# EAGLE library part MCP42100-E_SL (library SamacSys_Parts)
Dig Pot,256st,SPI,100k,2ch,MCP42100-E/SL Source: Datasheet <http://docs-emea.rs-online.com/webdocs/0a88/0900766b80a8815c.pdf>
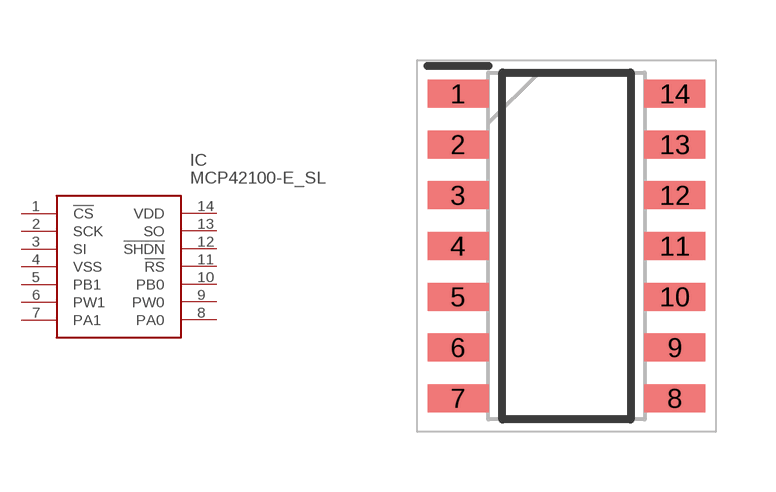
[diagram p2: symbol with the pads of SOIC127P600X175-14N; footprint SOIC127P600X175-14N]

Designator prefix IC

## MCP42100-E_SL (ARROW_PART_NUMBER: MCP42100-E/SL; ARROW_PRICE-STOCK: https://www.arrow.com/en/products/mcp42100-esl/microchip-technology; DESCRIPTION: Dig Pot,256st,SPI,100k,2ch,MCP42100-E/SL; HEIGHT: 1.75mm; MANUFACTURER_NAME: Microchip; MANUFACTURER_PART_NUMBER: MCP42100-E/SL; MOUSER_PART_NUMBER: 579-MCP42100-E/SL; MOUSER_PRICE-STOCK: https://www.mouser.co.uk/ProductDetail/Microchip-Technology/MCP42100-E-SL?qs=cQYLKLPzRJkzjV2J8NBddg%3D%3D)  [SOIC127P600X175-14N]
1  !CS  in
2  SCK
3  SI
4  VSS  pwr
5  PB1
6  PW1
7  PA1
8  PA0
9  PW0
10  PB0
11  !RS
12  !SHDN
13  SO
14  VDD  pwr

## Footprint SOIC127P600X175-14N (pad centres in mm)
(SL)14-Lead(SOIC)2003ver
smd 1.525 x 0.7: 1 -2.712,3.81; 2 -2.712,2.54; 3 -2.712,1.27; 4 -2.712,0; 5 -2.712,-1.27; 6 -2.712,-2.54; 7 -2.712,-3.81; 8 2.712,-3.81; 9 2.712,-2.54; 10 2.712,-1.27; 11 2.712,0; 12 2.712,1.27; 13 2.712,2.54; 14 2.712,3.81